# Altium schematic symbol library Ground Support.SchLib: 8 symbols
Pins are listed as number, name and electrical type; pins without a type are passive.

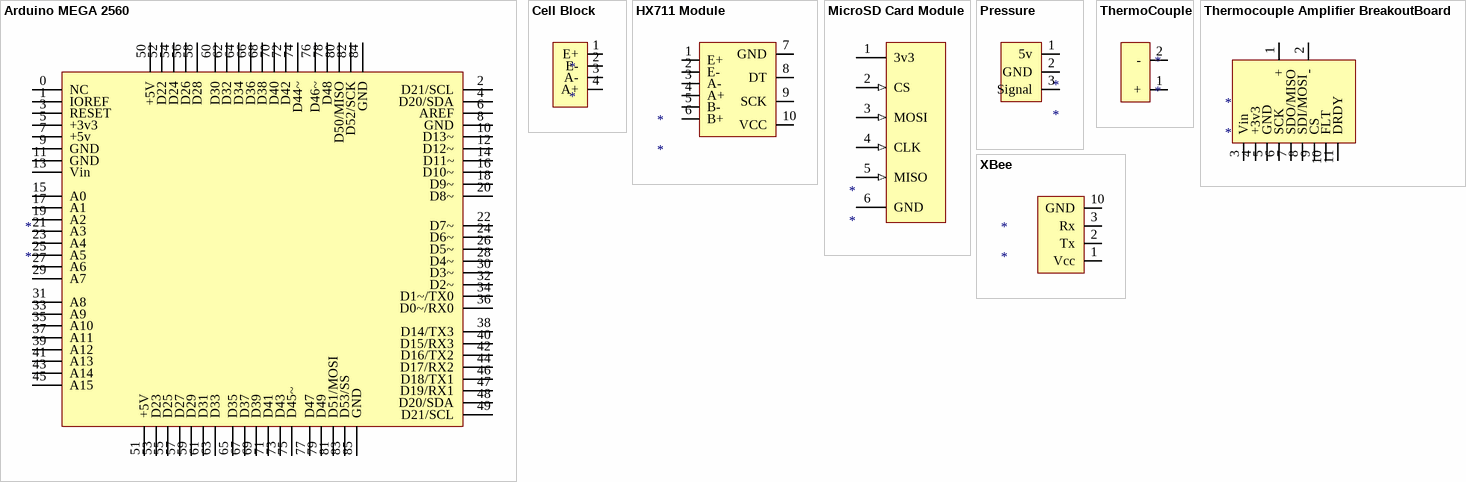
[diagram p0: symbols Arduino MEGA 2560 to XBee]

## Arduino MEGA 2560
designator *
pins: 0 NC, 1 IOREF, 2 D21/SCL, 3 RESET, 4 D20/SDA, 5 +3v3, 6 AREF, 7 +5v, 8 GND, 9 GND, 10 D13~, 11 GND, 12 D12~, 13 Vin, 14 D11~, 15 A0, 16 D10~, 17 A1, 18 D9~, 19 A2, 20 D8~, 21 A3, 22 D7~, 23 A4, 24 D6~, 25 A5, 26 D5~, 27 A6, 28 D4~, 29 A7, 30 D3~, 31 A8, 32 D2~, 33 A9, 34 D1~/TX0, 35 A10, 36 D0~/RX0, 37 A11, 38 D14/TX3, 39 A12, 40 D15/RX3, 41 A13, 42 D16/TX2, 43 A14, 44 D17/RX2, 45 A15, 46 D18/TX1, 47 D19/RX1, 48 D20/SDA, 49 D21/SCL, 50 +5V, 51 +5V, 52 D22, 53 D23, 54 D24, 55 D25, 56 D26, 57 D27, 58 D28, 59 D29, 60 D30, 61 D31, 62 D32, 63 D33, 64 D34, 65 D35, 66 D36, 67 D37, 68 D38, 69 D39, 70 D40, 71 D41, 72 D42, 73 D43, 74 D44~, 75 D45~, 76 D46~, 77 D47, 78 D48, 79 D49, 80 D50/MISO, 81 D51/MOSI, 82 D52/SCK, 83 D53/SS, 84 GND, 85 GND

## Cell Block
designator *
pins: 1 E+, 2 E-, 3 A-, 4 A+

## HX711 Module
designator *
pins: 1 E+, 2 E-, 3 A-, 4 A+, 5 B-, 6 B+, 7 GND, 8 DT, 9 SCK, 10 VCC

## MicroSD Card Module
designator *
pins: 1 3v3 (power) "3v3 source; Logic Shifter that allows 5v input aswell.", 2 CS (in) "ChipSelect", 3 MOSI (in), 4 CLK (in), 5 MISO (in), 6 GND (power)

## Pressure
designator *
pins: 1 5v, 2 GND, 3 Signal

## ThermoCouple
designator *
pins: 1 +, 2 -

## Thermocouple Amplifier BreakoutBoard
designator *
pins: 1 +, 2 -, 3 Vin, 4 +3v3, 5 GND, 6 SCK, 7 SDO/MISO, 8 SDI/MOSI, 9 CS, 10 FLT, 11 DRDY

## XBee
designator *
pins: 1 Vcc, 2 Tx, 3 Rx, 10 GND